# Altium integrated library Microchip PIC16 Part 1.IntLib: 1800 symbols (part 53 of 93)
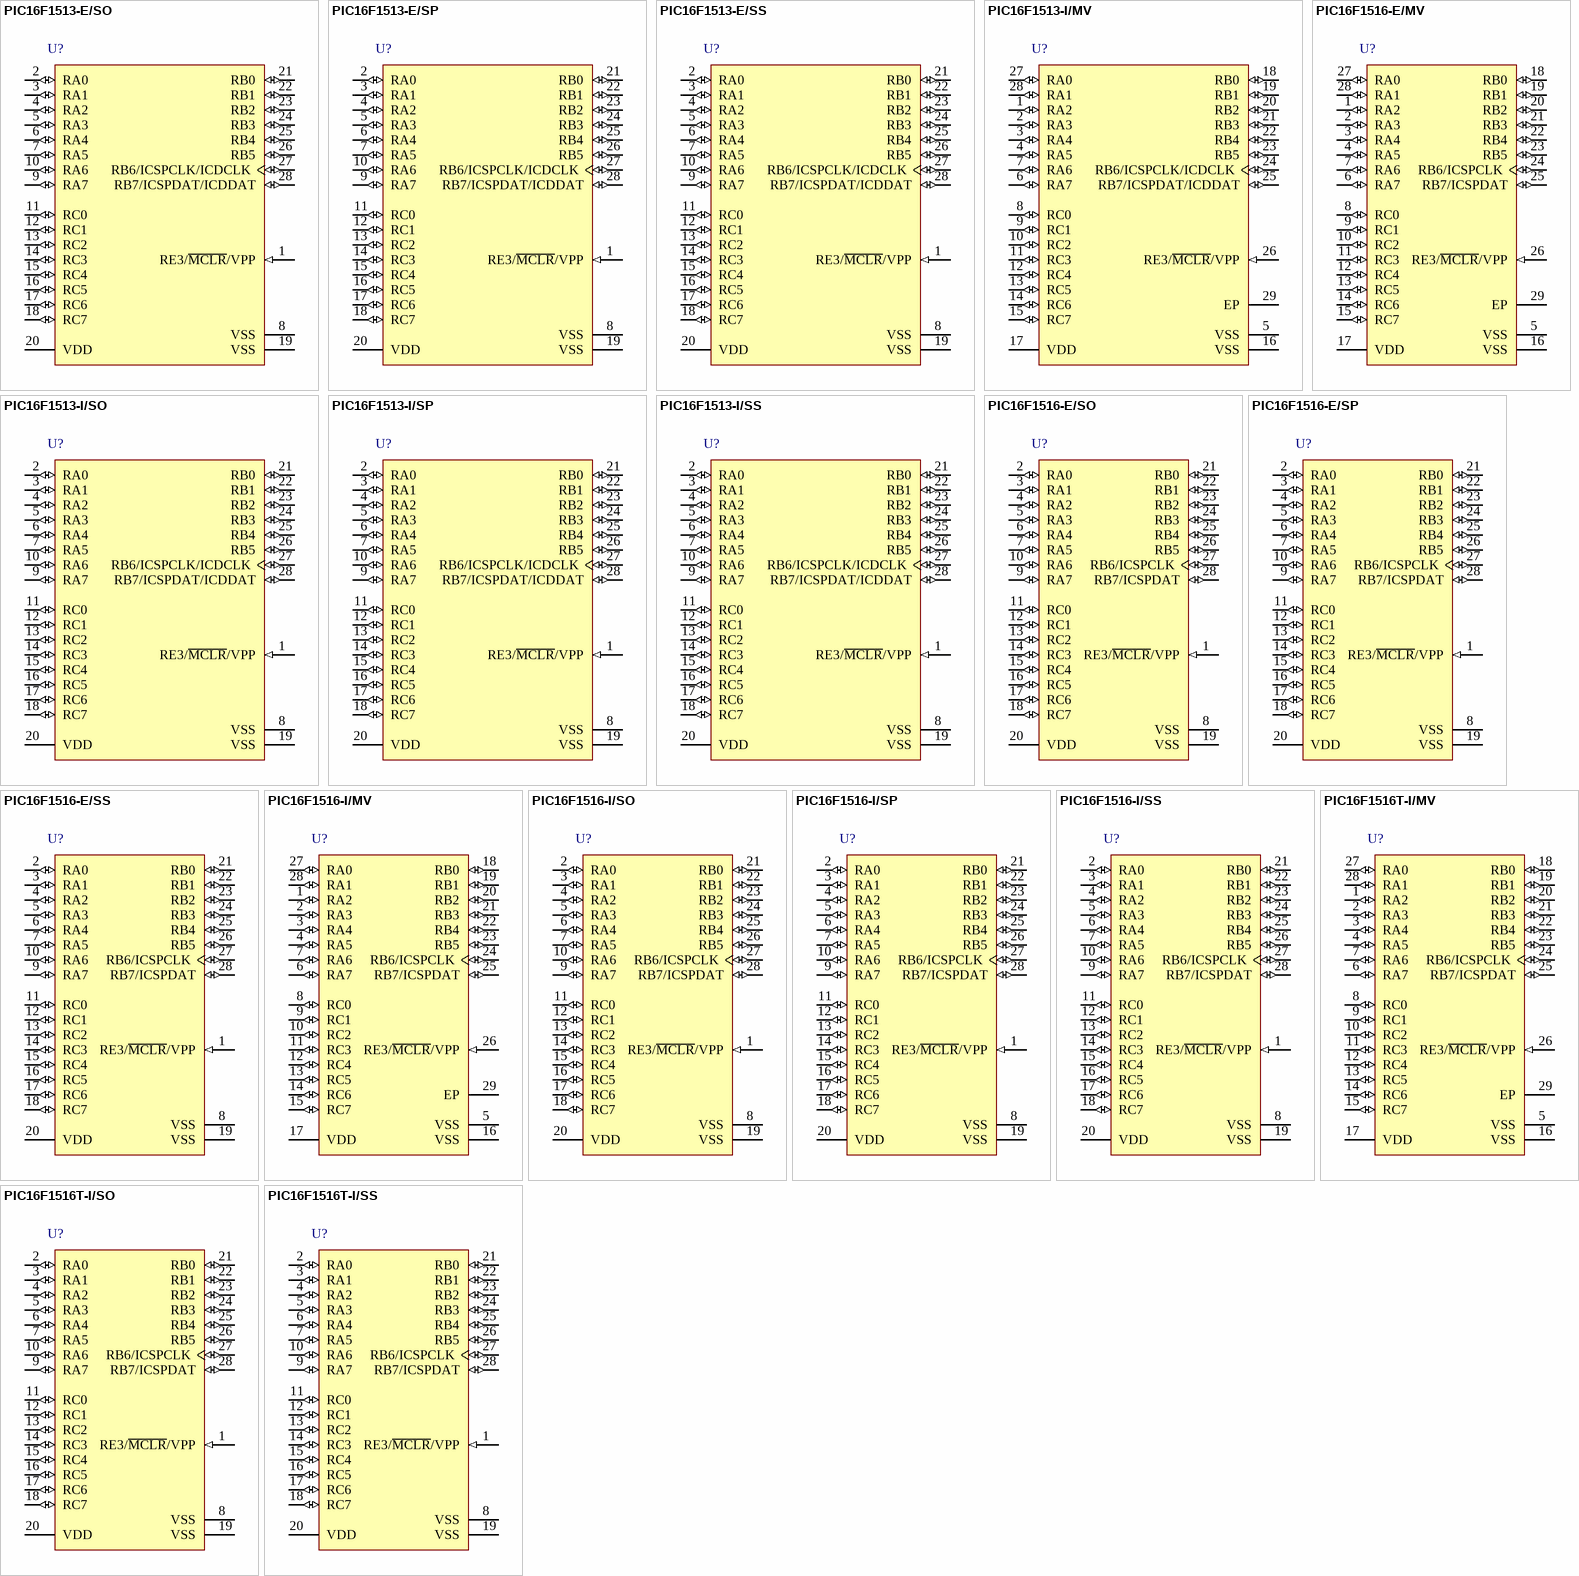
[diagram p151: symbols PIC16F1513-E/SO to PIC16F1516T-I/SS]

## PIC16F1516T-I/SS
designator U?
Flash Microcontroller with XLP Technology, 20 MHz, 24 I/O, -40 to 85 degC, 28-pin SSOP (SS28), Tape and Reel; Manufacturer: Microchip; PartNumber: PIC16F1516T-I/SS; # of A/D Channels: 17; Digital Communication: 1 -A/E/USART, 1 -MSSP(SPI/I2C); I/O Pins: 24; Internal Oscillator: 16 MHz, 31 kHz; Max. CPU Speed MHz: 20; Operation Voltage Range: 2.3V - 5.5V; Packing: T/R; Program Memory KBytes: 14; Program Memory KWords: 8; RAM: 512; Timers: 2 - 8-bit, 1 - 16-bit; DatasheetVersion: Rev. C; PackageVersion: C04-073B, 12/2012; PackageReference: SSOP-SS28; PackageDescription: 28-Lead Plastic Shrink Small Outline, 10.2 x 5.3 mm Body, 0.65 mm Pitch; Supplier 1: Digi-Key; Supplier Part Number 1: PIC16F1516T-I/SS-ND; Supplier 2: Mouser; Supplier Part Number 2: 579-PIC16F1516T-I/SS; Memory Type: Flash; RoHS: TRUE; Mounting Technology: Surface Mount; ComponentLink1Description: Datasheet; ComponentLink1URL: http://ww1.microchip.com/downloads/en/DeviceDoc/41452C.pdf; ComponentLink2Description: Package Specification; ComponentLink2URL: http://www.microchip.com/stellent/groups/techpub_sg/documents/packagingspec/en012702.pdf; ComponentLink3Description: URL Link1; ComponentLink3URL: Product URL:http://www.microchip.com/datasheet/PIC16F1516
footprint MCHP-SSOP-SS28_N (SOP, 28-Leads, Body 10.2x5.3mm, Pitch 0.65mm, IPC Medium Density)
footprint MCHP-SSOP-SS28_L (SOP, 28-Leads, Body 10.2x5.3mm, Pitch 0.65mm, IPC High Density)
footprint MCHP-SSOP-SS28_M (SOP, 28-Leads, Body 10.2x5.3mm, Pitch 0.65mm, IPC Low Density)
pins: 1 RE3/~{MCLR}/VPP (in), 2 RA0 (io), 3 RA1 (io), 4 RA2 (io), 5 RA3 (io), 6 RA4 (io), 7 RA5 (io), 8 VSS (power) "Ground reference.", 9 RA7 (io), 10 RA6 (io), 11 RC0 (io), 12 RC1 (io), 13 RC2 (io), 14 RC3 (io), 15 RC4 (io), 16 RC5 (io), 17 RC6 (io), 18 RC7 (io), 19 VSS (power) "Ground reference.", 20 VDD (power) "Positive supply.", 21 RB0 (io), 22 RB1 (io), 23 RB2 (io), 24 RB3 (io), 25 RB4 (io), 26 RB5 (io), 27 RB6/ICSPCLK (io), 28 RB7/ICSPDAT (io)

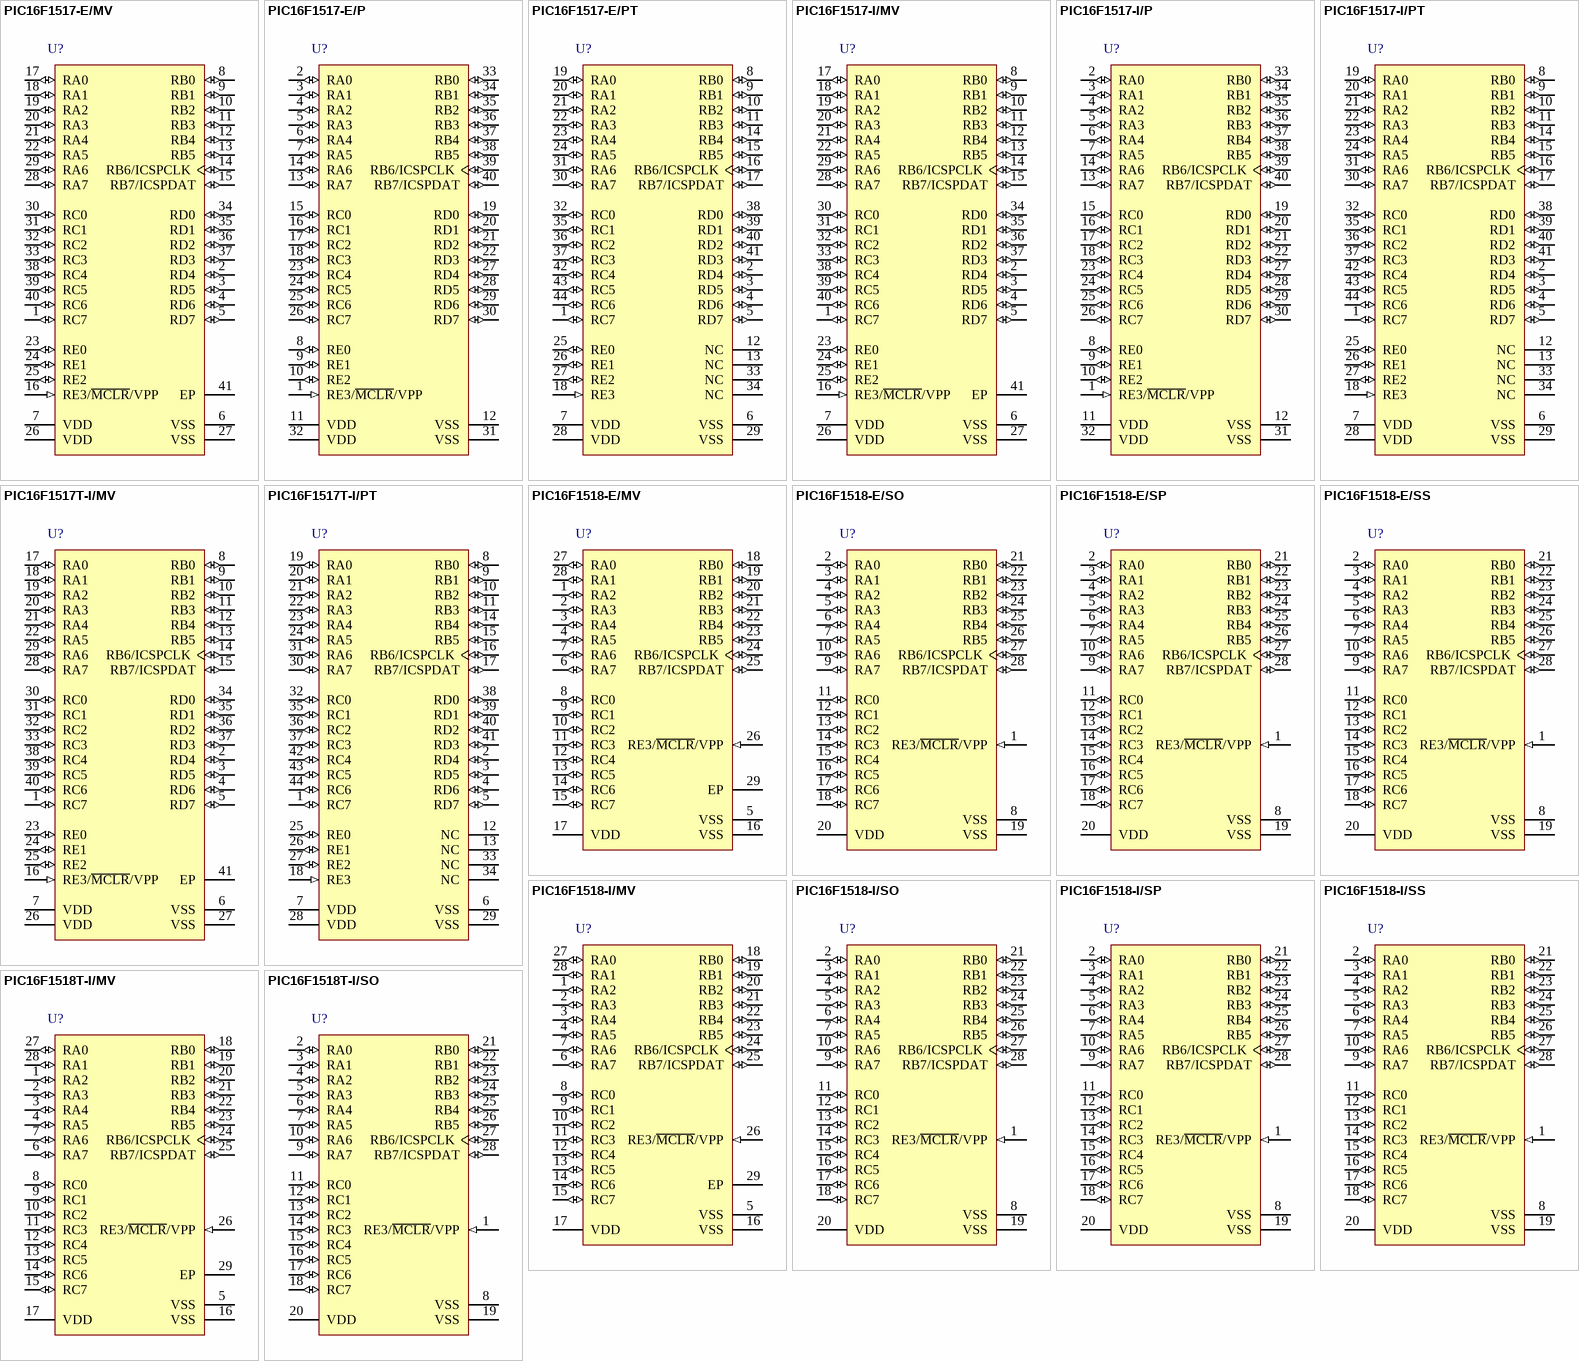
[diagram p52: symbols PIC16F1517-E/MV to PIC16F1518T-I/SO]

## PIC16F1517-E/MV
designator U?
Flash Microcontroller with XLP Technology, 20 MHz, 35 I/O, -40 to 125 degC, 40-pin UQFN (MV40), Tube; Manufacturer: Microchip; PartNumber: PIC16F1517-E/MV; # of A/D Channels: 28; Digital Communication: 1 -A/E/USART, 1 -MSSP(SPI/I2C); I/O Pins: 35; Internal Oscillator: 16 MHz, 31 kHz; Max. CPU Speed MHz: 20; Operation Voltage Range: 2.3V - 5.5V; Program Memory KBytes: 14; Program Memory KWords: 8; RAM: 512; Timers: 2 - 8-bit, 1 - 16-bit; DatasheetVersion: Rev. C; PackageVersion: C04-156A, 04/2013; PackageReference: UQFN-MV40; PackageDescription: 40-Lead Plastic Ultra Thin Quad Flat, No Lead Package, Body 5 x 5 mm, Pitch 0.4 mm; Supplier 1: Digi-Key; Supplier Part Number 1: PIC16F1517-E/MV-ND; Supplier 2: Newark; Supplier Part Number 2: 91R2995; Supplier 3: Mouser; Supplier Part Number 3: 579-PIC16F1517-E/MV; Memory Type: Flash; Packing: TUBE; RoHS: TRUE; Mounting Technology: Surface Mount; ComponentLink1Description: Datasheet; ComponentLink1URL: http://ww1.microchip.com/downloads/en/DeviceDoc/41452C.pdf; ComponentLink2Description: Package Specification; ComponentLink2URL: http://www.microchip.com/stellent/groups/techpub_sg/documents/packagingspec/en012702.pdf; ComponentLink3Description: URL Link1; ComponentLink3URL: Product URL:http://www.microchip.com/datasheet/PIC16F1517
footprint MCHP-UQFN-MV40_N (QFN, 40-Leads, Body 5x5mm, Pitch 0.4mm, Thermal Pad 3.7x3.7mm, IPC Medium Density)
footprint MCHP-UQFN-MV40_L (QFN, 40-Leads, Body 5x5mm, Pitch 0.4mm, Thermal Pad 3.7x3.7mm, IPC High Density)
footprint MCHP-UQFN-MV40_M (QFN, 40-Leads, Body 5x5mm, Pitch 0.4mm, Thermal Pad 3.7x3.7mm, IPC Low Density)
pins: 1 RC7 (io), 2 RD4 (io), 3 RD5 (io), 4 RD6 (io), 5 RD7 (io), 6 VSS (power) "Ground reference.", 7 VDD (power) "Positive supply.", 8 RB0 (io), 9 RB1 (io), 10 RB2 (io), 11 RB3 (io), 12 RB4 (io), 13 RB5 (io), 14 RB6/ICSPCLK (io), 15 RB7/ICSPDAT (io), 16 RE3/~{MCLR}/VPP (in), 17 RA0 (io), 18 RA1 (io), 19 RA2 (io), 20 RA3 (io), 21 RA4 (io), 22 RA5 (io), 23 RE0 (io), 24 RE1 (io), 25 RE2 (io), 26 VDD (power) "Positive supply.", 27 VSS (power) "Ground reference.", 28 RA7 (io), 29 RA6 (io), 30 RC0 (io), 31 RC1 (io), 32 RC2 (io), 33 RC3 (io), 34 RD0 (io), 35 RD1 (io), 36 RD2 (io), 37 RD3 (io), 38 RC4 (io), 39 RC5 (io), 40 RC6 (io), 41 EP

## PIC16F1517-E/P
designator U?
Flash Microcontroller with XLP Technology, 20 MHz, 35 I/O, -40 to 125 degC, 40-pin PDIP (P40), Tube; Manufacturer: Microchip; PartNumber: PIC16F1517-E/P; # of A/D Channels: 28; Digital Communication: 1 -A/E/USART, 1 -MSSP(SPI/I2C); I/O Pins: 35; Internal Oscillator: 16 MHz, 31 kHz; Max. CPU Speed MHz: 20; Operation Voltage Range: 2.3V - 5.5V; Program Memory KBytes: 14; Program Memory KWords: 8; RAM: 512; Timers: 2 - 8-bit, 1 - 16-bit; DatasheetVersion: Rev. C; PackageVersion: C04-016B, 04/2013; PackageReference: PDIP-P40; PackageDescription: 40-Lead Plastic Dual In-Line Package, Body 51.75 x 13.53 mm, Pitch 2.54 mm; Supplier 1: Digi-Key; Supplier Part Number 1: PIC16F1517-E/P-ND; Supplier 2: Newark; Supplier Part Number 2: 91R2996; Supplier 3: Mouser; Supplier Part Number 3: 579-PIC16F1517-E/P; Memory Type: Flash; Packing: TUBE; RoHS: TRUE; Mounting Technology: Through Hole; ComponentLink1Description: Datasheet; ComponentLink1URL: http://ww1.microchip.com/downloads/en/DeviceDoc/41452C.pdf; ComponentLink2Description: Package Specification; ComponentLink2URL: http://www.microchip.com/stellent/groups/techpub_sg/documents/packagingspec/en012702.pdf; ComponentLink3Description: URL Link1; ComponentLink3URL: Product URL:http://www.microchip.com/datasheet/PIC16F1517
footprint MCHP-PDIP-P40 (PDIP, 40-Leads, Body 51.75x13.53mm, Pitch 2.54mm)
pins: 1 RE3/~{MCLR}/VPP (in), 2 RA0 (io), 3 RA1 (io), 4 RA2 (io), 5 RA3 (io), 6 RA4 (io), 7 RA5 (io), 8 RE0 (io), 9 RE1 (io), 10 RE2 (io), 11 VDD (power) "Positive supply.", 12 VSS (power) "Ground reference.", 13 RA7 (io), 14 RA6 (io), 15 RC0 (io), 16 RC1 (io), 17 RC2 (io), 18 RC3 (io), 19 RD0 (io), 20 RD1 (io), 21 RD2 (io), 22 RD3 (io), 23 RC4 (io), 24 RC5 (io), 25 RC6 (io), 26 RC7 (io), 27 RD4 (io), 28 RD5 (io), 29 RD6 (io), 30 RD7 (io), 31 VSS (power) "Ground reference.", 32 VDD (power) "Positive supply.", 33 RB0 (io), 34 RB1 (io), 35 RB2 (io), 36 RB3 (io), 37 RB4 (io), 38 RB5 (io), 39 RB6/ICSPCLK (io), 40 RB7/ICSPDAT (io)

## PIC16F1517-E/PT
designator U?
Flash Microcontroller with XLP Technology, 20 MHz, 35 I/O, -40 to 125 degC, 44-pin TQFP (PT44), Tray; Manufacturer: Microchip; PartNumber: PIC16F1517-E/PT; # of A/D Channels: 28; Digital Communication: 1 -A/E/USART, 1 -MSSP(SPI/I2C); I/O Pins: 35; Internal Oscillator: 16 MHz, 31 kHz; Max. CPU Speed MHz: 20; Operation Voltage Range: 2.3V - 5.5V; Program Memory KBytes: 14; Program Memory KWords: 8; RAM: 512; Timers: 2 - 8-bit, 1 - 16-bit; DatasheetVersion: Rev. C; PackageVersion: C04-076B, 12/2012; PackageReference: TQFP-PT44; PackageDescription: 44-Lead Plastic Thin Quad Flatpack, 10 x 10 mm Body, 0.8 mm Pitch; Supplier 1: Digi-Key; Supplier Part Number 1: PIC16F1517-E/PT-ND; Supplier 2: Newark; Supplier Part Number 2: 91R2997; Supplier 3: Mouser; Supplier Part Number 3: 579-PIC16F1517-E/PT; Memory Type: Flash; Packing: TRAY; RoHS: TRUE; Mounting Technology: Surface Mount; ComponentLink1Description: Datasheet; ComponentLink1URL: http://ww1.microchip.com/downloads/en/DeviceDoc/41452C.pdf; ComponentLink2Description: Package Specification; ComponentLink2URL: http://www.microchip.com/stellent/groups/techpub_sg/documents/packagingspec/en012702.pdf; ComponentLink3Description: URL Link1; ComponentLink3URL: Product URL:http://www.microchip.com/datasheet/PIC16F1517
footprint MCHP-TQFP-PT44_N (QFN, 44-Leads, Body 10x10mm, Pitch 0.8mm, IPC Medium Density)
footprint MCHP-TQFP-PT44_L (QFN, 44-Leads, Body 10x10mm, Pitch 0.8mm, IPC High Density)
footprint MCHP-TQFP-PT44_M (QFN, 44-Leads, Body 10x10mm, Pitch 0.8mm, IPC Low Density)
pins: 1 RC7 (io), 2 RD4 (io), 3 RD5 (io), 4 RD6 (io), 5 RD7 (io), 6 VSS (power) "Ground reference.", 7 VDD (power) "Positive supply.", 8 RB0 (io), 9 RB1 (io), 10 RB2 (io), 11 RB3 (io), 12 NC, 13 NC, 14 RB4 (io), 15 RB5 (io), 16 RB6/ICSPCLK (io), 17 RB7/ICSPDAT (io), 18 RE3 (in), 19 RA0 (io), 20 RA1 (io), 21 RA2 (io), 22 RA3 (io), 23 RA4 (io), 24 RA5 (io), 25 RE0 (io), 26 RE1 (io), 27 RE2 (io), 28 VDD (power) "Positive supply.", 29 VSS (power) "Ground reference.", 30 RA7 (io), 31 RA6 (io), 32 RC0 (io), 33 NC, 34 NC, 35 RC1 (io), 36 RC2 (io), 37 RC3 (io), 38 RD0 (io), 39 RD1 (io), 40 RD2 (io), 41 RD3 (io), 42 RC4 (io), 43 RC5 (io), 44 RC6 (io)

## PIC16F1517-I/MV
designator U?
Flash Microcontroller with XLP Technology, 20 MHz, 35 I/O, -40 to 85 degC, 40-pin UQFN (MV40), Tube; Manufacturer: Microchip; PartNumber: PIC16F1517-I/MV; # of A/D Channels: 28; Digital Communication: 1 -A/E/USART, 1 -MSSP(SPI/I2C); I/O Pins: 35; Internal Oscillator: 16 MHz, 31 kHz; Max. CPU Speed MHz: 20; Operation Voltage Range: 2.3V - 5.5V; Program Memory KBytes: 14; Program Memory KWords: 8; RAM: 512; Timers: 2 - 8-bit, 1 - 16-bit; DatasheetVersion: Rev. C; PackageVersion: C04-156A, 04/2013; PackageReference: UQFN-MV40; PackageDescription: 40-Lead Plastic Ultra Thin Quad Flat, No Lead Package, Body 5 x 5 mm, Pitch 0.4 mm; Supplier 1: Digi-Key; Supplier Part Number 1: PIC16F1517-I/MV-ND; Supplier 2: Farnell; Supplier Part Number 2: 1909421; Supplier 3: Mouser; Supplier Part Number 3: 579-PIC16F1517-I/MV; Memory Type: Flash; Packing: TUBE; RoHS: TRUE; Mounting Technology: Surface Mount; ComponentLink1Description: Datasheet; ComponentLink1URL: http://ww1.microchip.com/downloads/en/DeviceDoc/41452C.pdf; ComponentLink2Description: Package Specification; ComponentLink2URL: http://www.microchip.com/stellent/groups/techpub_sg/documents/packagingspec/en012702.pdf; ComponentLink3Description: URL Link1; ComponentLink3URL: Product URL:http://www.microchip.com/datasheet/PIC16F1517
footprint MCHP-UQFN-MV40_N (QFN, 40-Leads, Body 5x5mm, Pitch 0.4mm, Thermal Pad 3.7x3.7mm, IPC Medium Density)
footprint MCHP-UQFN-MV40_L (QFN, 40-Leads, Body 5x5mm, Pitch 0.4mm, Thermal Pad 3.7x3.7mm, IPC High Density)
footprint MCHP-UQFN-MV40_M (QFN, 40-Leads, Body 5x5mm, Pitch 0.4mm, Thermal Pad 3.7x3.7mm, IPC Low Density)
pins: 1 RC7 (io), 2 RD4 (io), 3 RD5 (io), 4 RD6 (io), 5 RD7 (io), 6 VSS (power) "Ground reference.", 7 VDD (power) "Positive supply.", 8 RB0 (io), 9 RB1 (io), 10 RB2 (io), 11 RB3 (io), 12 RB4 (io), 13 RB5 (io), 14 RB6/ICSPCLK (io), 15 RB7/ICSPDAT (io), 16 RE3/~{MCLR}/VPP (in), 17 RA0 (io), 18 RA1 (io), 19 RA2 (io), 20 RA3 (io), 21 RA4 (io), 22 RA5 (io), 23 RE0 (io), 24 RE1 (io), 25 RE2 (io), 26 VDD (power) "Positive supply.", 27 VSS (power) "Ground reference.", 28 RA7 (io), 29 RA6 (io), 30 RC0 (io), 31 RC1 (io), 32 RC2 (io), 33 RC3 (io), 34 RD0 (io), 35 RD1 (io), 36 RD2 (io), 37 RD3 (io), 38 RC4 (io), 39 RC5 (io), 40 RC6 (io), 41 EP

## PIC16F1517-I/P
designator U?
Flash Microcontroller with XLP Technology, 20 MHz, 35 I/O, -40 to 85 degC, 40-pin PDIP (P40), Tube; Manufacturer: Microchip; PartNumber: PIC16F1517-I/P; # of A/D Channels: 28; Digital Communication: 1 -A/E/USART, 1 -MSSP(SPI/I2C); I/O Pins: 35; Internal Oscillator: 16 MHz, 31 kHz; Max. CPU Speed MHz: 20; Operation Voltage Range: 2.3V - 5.5V; Program Memory KBytes: 14; Program Memory KWords: 8; RAM: 512; Timers: 2 - 8-bit, 1 - 16-bit; DatasheetVersion: Rev. C; PackageVersion: C04-016B, 04/2013; PackageReference: PDIP-P40; PackageDescription: 40-Lead Plastic Dual In-Line Package, Body 51.75 x 13.53 mm, Pitch 2.54 mm; Supplier 1: Digi-Key; Supplier Part Number 1: PIC16F1517-I/P-ND; Supplier 2: Farnell; Supplier Part Number 2: 1909422; Supplier 3: Newark; Supplier Part Number 3: 91R2999; Supplier 4: Mouser; Supplier Part Number 4: 579-PIC16F1517-I/P; Memory Type: Flash; Packing: TUBE; RoHS: TRUE; Mounting Technology: Through Hole; ComponentLink1Description: Datasheet; ComponentLink1URL: http://ww1.microchip.com/downloads/en/DeviceDoc/41452C.pdf; ComponentLink2Description: Package Specification; ComponentLink2URL: http://www.microchip.com/stellent/groups/techpub_sg/documents/packagingspec/en012702.pdf; ComponentLink3Description: URL Link1; ComponentLink3URL: Product URL:http://www.microchip.com/datasheet/PIC16F1517
footprint MCHP-PDIP-P40 (PDIP, 40-Leads, Body 51.75x13.53mm, Pitch 2.54mm)
pins: 1 RE3/~{MCLR}/VPP (in), 2 RA0 (io), 3 RA1 (io), 4 RA2 (io), 5 RA3 (io), 6 RA4 (io), 7 RA5 (io), 8 RE0 (io), 9 RE1 (io), 10 RE2 (io), 11 VDD (power) "Positive supply.", 12 VSS (power) "Ground reference.", 13 RA7 (io), 14 RA6 (io), 15 RC0 (io), 16 RC1 (io), 17 RC2 (io), 18 RC3 (io), 19 RD0 (io), 20 RD1 (io), 21 RD2 (io), 22 RD3 (io), 23 RC4 (io), 24 RC5 (io), 25 RC6 (io), 26 RC7 (io), 27 RD4 (io), 28 RD5 (io), 29 RD6 (io), 30 RD7 (io), 31 VSS (power) "Ground reference.", 32 VDD (power) "Positive supply.", 33 RB0 (io), 34 RB1 (io), 35 RB2 (io), 36 RB3 (io), 37 RB4 (io), 38 RB5 (io), 39 RB6/ICSPCLK (io), 40 RB7/ICSPDAT (io)

## PIC16F1517-I/PT
designator U?
Flash Microcontroller with XLP Technology, 20 MHz, 35 I/O, -40 to 85 degC, 44-pin TQFP (PT44), Tray; Manufacturer: Microchip; PartNumber: PIC16F1517-I/PT; # of A/D Channels: 28; Digital Communication: 1 -A/E/USART, 1 -MSSP(SPI/I2C); I/O Pins: 35; Internal Oscillator: 16 MHz, 31 kHz; Max. CPU Speed MHz: 20; Operation Voltage Range: 2.3V - 5.5V; Program Memory KBytes: 14; Program Memory KWords: 8; RAM: 512; Timers: 2 - 8-bit, 1 - 16-bit; DatasheetVersion: Rev. C; PackageVersion: C04-076B, 12/2012; PackageReference: TQFP-PT44; PackageDescription: 44-Lead Plastic Thin Quad Flatpack, 10 x 10 mm Body, 0.8 mm Pitch; Supplier 1: Digi-Key; Supplier Part Number 1: PIC16F1517-I/PT-ND; Supplier 2: Farnell; Supplier Part Number 2: 1898770; Supplier 3: Farnell; Supplier Part Number 3: 1898770MPKG; Supplier 4: Newark; Supplier Part Number 4: 91R3000; Supplier 5: Mouser; Supplier Part Number 5: 579-PIC16F1517-I/PT; Memory Type: Flash; Packing: TRAY; RoHS: TRUE; Mounting Technology: Surface Mount; ComponentLink1Description: Datasheet; ComponentLink1URL: http://ww1.microchip.com/downloads/en/DeviceDoc/41452C.pdf; ComponentLink2Description: Package Specification; ComponentLink2URL: http://www.microchip.com/stellent/groups/techpub_sg/documents/packagingspec/en012702.pdf; ComponentLink3Description: URL Link1; ComponentLink3URL: Product URL:http://www.microchip.com/datasheet/PIC16F1517
footprint MCHP-TQFP-PT44_N (QFN, 44-Leads, Body 10x10mm, Pitch 0.8mm, IPC Medium Density)
footprint MCHP-TQFP-PT44_L (QFN, 44-Leads, Body 10x10mm, Pitch 0.8mm, IPC High Density)
footprint MCHP-TQFP-PT44_M (QFN, 44-Leads, Body 10x10mm, Pitch 0.8mm, IPC Low Density)
pins: 1 RC7 (io), 2 RD4 (io), 3 RD5 (io), 4 RD6 (io), 5 RD7 (io), 6 VSS (power) "Ground reference.", 7 VDD (power) "Positive supply.", 8 RB0 (io), 9 RB1 (io), 10 RB2 (io), 11 RB3 (io), 12 NC, 13 NC, 14 RB4 (io), 15 RB5 (io), 16 RB6/ICSPCLK (io), 17 RB7/ICSPDAT (io), 18 RE3 (in), 19 RA0 (io), 20 RA1 (io), 21 RA2 (io), 22 RA3 (io), 23 RA4 (io), 24 RA5 (io), 25 RE0 (io), 26 RE1 (io), 27 RE2 (io), 28 VDD (power) "Positive supply.", 29 VSS (power) "Ground reference.", 30 RA7 (io), 31 RA6 (io), 32 RC0 (io), 33 NC, 34 NC, 35 RC1 (io), 36 RC2 (io), 37 RC3 (io), 38 RD0 (io), 39 RD1 (io), 40 RD2 (io), 41 RD3 (io), 42 RC4 (io), 43 RC5 (io), 44 RC6 (io)

## PIC16F1517T-I/MV
designator U?
Flash Microcontroller with XLP Technology, 20 MHz, 35 I/O, -40 to 85 degC, 40-pin UQFN (MV40), Tape and Reel; Manufacturer: Microchip; PartNumber: PIC16F1517T-I/MV; # of A/D Channels: 28; Digital Communication: 1 -A/E/USART, 1 -MSSP(SPI/I2C); I/O Pins: 35; Internal Oscillator: 16 MHz, 31 kHz; Max. CPU Speed MHz: 20; Operation Voltage Range: 2.3V - 5.5V; Packing: T/R; Program Memory KBytes: 14; Program Memory KWords: 8; RAM: 512; Timers: 2 - 8-bit, 1 - 16-bit; DatasheetVersion: Rev. C; PackageVersion: C04-156A, 04/2013; PackageReference: UQFN-MV40; PackageDescription: 40-Lead Plastic Ultra Thin Quad Flat, No Lead Package, Body 5 x 5 mm, Pitch 0.4 mm; Supplier 1: Digi-Key; Supplier Part Number 1: PIC16F1517T-I/MV-ND; Supplier 2: Mouser; Supplier Part Number 2: 579-PIC16F1517T-I/MV; Memory Type: Flash; RoHS: TRUE; Mounting Technology: Surface Mount; ComponentLink1Description: Datasheet; ComponentLink1URL: http://ww1.microchip.com/downloads/en/DeviceDoc/41452C.pdf; ComponentLink2Description: Package Specification; ComponentLink2URL: http://www.microchip.com/stellent/groups/techpub_sg/documents/packagingspec/en012702.pdf; ComponentLink3Description: URL Link1; ComponentLink3URL: Product URL:http://www.microchip.com/datasheet/PIC16F1517
footprint MCHP-UQFN-MV40_N (QFN, 40-Leads, Body 5x5mm, Pitch 0.4mm, Thermal Pad 3.7x3.7mm, IPC Medium Density)
footprint MCHP-UQFN-MV40_L (QFN, 40-Leads, Body 5x5mm, Pitch 0.4mm, Thermal Pad 3.7x3.7mm, IPC High Density)
footprint MCHP-UQFN-MV40_M (QFN, 40-Leads, Body 5x5mm, Pitch 0.4mm, Thermal Pad 3.7x3.7mm, IPC Low Density)
pins: 1 RC7 (io), 2 RD4 (io), 3 RD5 (io), 4 RD6 (io), 5 RD7 (io), 6 VSS (power) "Ground reference.", 7 VDD (power) "Positive supply.", 8 RB0 (io), 9 RB1 (io), 10 RB2 (io), 11 RB3 (io), 12 RB4 (io), 13 RB5 (io), 14 RB6/ICSPCLK (io), 15 RB7/ICSPDAT (io), 16 RE3/~{MCLR}/VPP (in), 17 RA0 (io), 18 RA1 (io), 19 RA2 (io), 20 RA3 (io), 21 RA4 (io), 22 RA5 (io), 23 RE0 (io), 24 RE1 (io), 25 RE2 (io), 26 VDD (power) "Positive supply.", 27 VSS (power) "Ground reference.", 28 RA7 (io), 29 RA6 (io), 30 RC0 (io), 31 RC1 (io), 32 RC2 (io), 33 RC3 (io), 34 RD0 (io), 35 RD1 (io), 36 RD2 (io), 37 RD3 (io), 38 RC4 (io), 39 RC5 (io), 40 RC6 (io), 41 EP

## PIC16F1517T-I/PT
designator U?
Flash Microcontroller with XLP Technology, 20 MHz, 35 I/O, -40 to 85 degC, 44-pin TQFP (PT44), Tape and Reel; Manufacturer: Microchip; PartNumber: PIC16F1517T-I/PT; # of A/D Channels: 28; Digital Communication: 1 -A/E/USART, 1 -MSSP(SPI/I2C); I/O Pins: 35; Internal Oscillator: 16 MHz, 31 kHz; Max. CPU Speed MHz: 20; Operation Voltage Range: 2.3V - 5.5V; Packing: T/R; Program Memory KBytes: 14; Program Memory KWords: 8; RAM: 512; Timers: 2 - 8-bit, 1 - 16-bit; DatasheetVersion: Rev. C; PackageVersion: C04-076B, 12/2012; PackageReference: TQFP-PT44; PackageDescription: 44-Lead Plastic Thin Quad Flatpack, 10 x 10 mm Body, 0.8 mm Pitch; Supplier 1: Digi-Key; Supplier Part Number 1: PIC16F1517T-I/PT-ND; Supplier 2: Newark; Supplier Part Number 2: 91R3002; Supplier 3: Mouser; Supplier Part Number 3: 579-PIC16F1517T-I/PT; Memory Type: Flash; RoHS: TRUE; Mounting Technology: Surface Mount; ComponentLink1Description: Datasheet; ComponentLink1URL: http://ww1.microchip.com/downloads/en/DeviceDoc/41452C.pdf; ComponentLink2Description: Package Specification; ComponentLink2URL: http://www.microchip.com/stellent/groups/techpub_sg/documents/packagingspec/en012702.pdf; ComponentLink3Description: URL Link1; ComponentLink3URL: Product URL:http://www.microchip.com/datasheet/PIC16F1517
footprint MCHP-TQFP-PT44_N (QFN, 44-Leads, Body 10x10mm, Pitch 0.8mm, IPC Medium Density)
footprint MCHP-TQFP-PT44_L (QFN, 44-Leads, Body 10x10mm, Pitch 0.8mm, IPC High Density)
footprint MCHP-TQFP-PT44_M (QFN, 44-Leads, Body 10x10mm, Pitch 0.8mm, IPC Low Density)
pins: 1 RC7 (io), 2 RD4 (io), 3 RD5 (io), 4 RD6 (io), 5 RD7 (io), 6 VSS (power) "Ground reference.", 7 VDD (power) "Positive supply.", 8 RB0 (io), 9 RB1 (io), 10 RB2 (io), 11 RB3 (io), 12 NC, 13 NC, 14 RB4 (io), 15 RB5 (io), 16 RB6/ICSPCLK (io), 17 RB7/ICSPDAT (io), 18 RE3 (in), 19 RA0 (io), 20 RA1 (io), 21 RA2 (io), 22 RA3 (io), 23 RA4 (io), 24 RA5 (io), 25 RE0 (io), 26 RE1 (io), 27 RE2 (io), 28 VDD (power) "Positive supply.", 29 VSS (power) "Ground reference.", 30 RA7 (io), 31 RA6 (io), 32 RC0 (io), 33 NC, 34 NC, 35 RC1 (io), 36 RC2 (io), 37 RC3 (io), 38 RD0 (io), 39 RD1 (io), 40 RD2 (io), 41 RD3 (io), 42 RC4 (io), 43 RC5 (io), 44 RC6 (io)

## PIC16F1518-E/MV
designator U?
Flash Microcontroller with XLP Technology, 20 MHz, 24 I/O, -40 to 125 degC, 28-pin UQFN (MV28), Tube; Manufacturer: Microchip; PartNumber: PIC16F1518-E/MV; # of A/D Channels: 17; Digital Communication: 1 -A/E/USART, 1 -MSSP(SPI/I2C); I/O Pins: 24; Internal Oscillator: 16 MHz, 31 kHz; Max. CPU Speed MHz: 20; Operation Voltage Range: 2.3V - 5.5V; Program Memory KBytes: 28; Program Memory KWords: 16; RAM: 1024; Timers: 2 - 8-bit, 1 - 16-bit; DatasheetVersion: Rev. C; PackageVersion: C04-152A, 04/2013; PackageReference: UQFN-MV28; PackageDescription: 28-Lead Plastic Ultra Thin Quad Flat, Body 4 x 4 mm, Pitch 0.4 mm; Supplier 1: Digi-Key; Supplier Part Number 1: PIC16F1518-E/MV-ND; Supplier 2: Mouser; Supplier Part Number 2: 579-PIC16F1518-E/MV; Memory Type: Flash; Packing: TUBE; RoHS: TRUE; Mounting Technology: Surface Mount; ComponentLink1Description: Datasheet; ComponentLink1URL: http://ww1.microchip.com/downloads/en/DeviceDoc/41452C.pdf; ComponentLink2Description: Package Specification; ComponentLink2URL: http://www.microchip.com/stellent/groups/techpub_sg/documents/packagingspec/en012702.pdf; ComponentLink3Description: URL Link1; ComponentLink3URL: Product URL:http://www.microchip.com/datasheet/PIC16F1518
footprint MCHP-UQFN-MV28_N (QFN, 28-Leads, Body 4x4mm, Pitch 0.4mm, Thermal Pad 2.65x2.65mm, IPC Medium Density)
footprint MCHP-UQFN-MV28_L (QFN, 28-Leads, Body 4x4mm, Pitch 0.4mm, Thermal Pad 2.65x2.65mm, IPC High Density)
footprint MCHP-UQFN-MV28_M (QFN, 28-Leads, Body 4x4mm, Pitch 0.4mm, Thermal Pad 2.65x2.65mm, IPC Low Density)
pins: 1 RA2 (io), 2 RA3 (io), 3 RA4 (io), 4 RA5 (io), 5 VSS (power) "Ground reference.", 6 RA7 (io), 7 RA6 (io), 8 RC0 (io), 9 RC1 (io), 10 RC2 (io), 11 RC3 (io), 12 RC4 (io), 13 RC5 (io), 14 RC6 (io), 15 RC7 (io), 16 VSS (power) "Ground reference.", 17 VDD (power) "Positive supply.", 18 RB0 (io), 19 RB1 (io), 20 RB2 (io), 21 RB3 (io), 22 RB4 (io), 23 RB5 (io), 24 RB6/ICSPCLK (io), 25 RB7/ICSPDAT (io), 26 RE3/~{MCLR}/VPP (in), 27 RA0 (io), 28 RA1 (io), 29 EP

## PIC16F1518-E/SO
designator U?
Flash Microcontroller with XLP Technology, 20 MHz, 24 I/O, -40 to 125 degC, 28-pin SOIC (SO28), Tube; Manufacturer: Microchip; PartNumber: PIC16F1518-E/SO; # of A/D Channels: 17; Digital Communication: 1 -A/E/USART, 1 -MSSP(SPI/I2C); I/O Pins: 24; Internal Oscillator: 16 MHz, 31 kHz; Max. CPU Speed MHz: 20; Operation Voltage Range: 2.3V - 5.5V; Program Memory KBytes: 28; Program Memory KWords: 16; RAM: 1024; Timers: 2 - 8-bit, 1 - 16-bit; DatasheetVersion: Rev. C; PackageVersion: C04-052C, 12/2012; PackageReference: SOIC-SO28; PackageDescription: 28-Lead Plastic Small Outline, 17.9 x 7.5 mm Body, 1.27 mm Pitch; Supplier 1: Digi-Key; Supplier Part Number 1: PIC16F1518-E/SO-ND; Supplier 2: Mouser; Supplier Part Number 2: 579-PIC16F1518-E/SO; Memory Type: Flash; Packing: TUBE; RoHS: TRUE; Mounting Technology: Surface Mount; ComponentLink1Description: Datasheet; ComponentLink1URL: http://ww1.microchip.com/downloads/en/DeviceDoc/41452C.pdf; ComponentLink2Description: Package Specification; ComponentLink2URL: http://www.microchip.com/stellent/groups/techpub_sg/documents/packagingspec/en012702.pdf; ComponentLink3Description: URL Link1; ComponentLink3URL: Product URL:http://www.microchip.com/datasheet/PIC16F1518
footprint MCHP-SOIC-SO28_N (SOIC, 28-Leads, Body 17.9x7.5mm, Pitch 1.27mm, IPC Medium Density)
footprint MCHP-SOIC-SO28_L (SOIC, 28-Leads, Body 17.9x7.5mm, Pitch 1.27mm, IPC High Density)
footprint MCHP-SOIC-SO28_M (SOIC, 28-Leads, Body 17.9x7.5mm, Pitch 1.27mm, IPC Low Density)
pins: 1 RE3/~{MCLR}/VPP (in), 2 RA0 (io), 3 RA1 (io), 4 RA2 (io), 5 RA3 (io), 6 RA4 (io), 7 RA5 (io), 8 VSS (power) "Ground reference.", 9 RA7 (io), 10 RA6 (io), 11 RC0 (io), 12 RC1 (io), 13 RC2 (io), 14 RC3 (io), 15 RC4 (io), 16 RC5 (io), 17 RC6 (io), 18 RC7 (io), 19 VSS (power) "Ground reference.", 20 VDD (power) "Positive supply.", 21 RB0 (io), 22 RB1 (io), 23 RB2 (io), 24 RB3 (io), 25 RB4 (io), 26 RB5 (io), 27 RB6/ICSPCLK (io), 28 RB7/ICSPDAT (io)

## PIC16F1518-E/SP
designator U?
Flash Microcontroller with XLP Technology, 20 MHz, 24 I/O, -40 to 125 degC, 28-pin SPDIP (SP28), Tube; Manufacturer: Microchip; PartNumber: PIC16F1518-E/SP; # of A/D Channels: 17; Digital Communication: 1 -A/E/USART, 1 -MSSP(SPI/I2C); I/O Pins: 24; Internal Oscillator: 16 MHz, 31 kHz; Max. CPU Speed MHz: 20; Operation Voltage Range: 2.3V - 5.5V; Program Memory KBytes: 28; Program Memory KWords: 16; RAM: 1024; Timers: 2 - 8-bit, 1 - 16-bit; DatasheetVersion: Rev. C; PackageVersion: C04-070B, 12/2012; PackageReference: SPDIP-SP28; PackageDescription: 28-Lead Plastic Dual In-Line, 34.86 x 6.79 mm Body, 2.54 mm Pitch; Supplier 1: Digi-Key; Supplier Part Number 1: PIC16F1518-E/SP-ND; Supplier 2: Mouser; Supplier Part Number 2: 579-PIC16F1518-E/SP; Memory Type: Flash; Packing: TUBE; RoHS: TRUE; Mounting Technology: Through Hole; ComponentLink1Description: Datasheet; ComponentLink1URL: http://ww1.microchip.com/downloads/en/DeviceDoc/41452C.pdf; ComponentLink2Description: Package Specification; ComponentLink2URL: http://www.microchip.com/stellent/groups/techpub_sg/documents/packagingspec/en012702.pdf; ComponentLink3Description: URL Link1; ComponentLink3URL: Product URL:http://www.microchip.com/datasheet/PIC16F1518
footprint MCHP-SPDIP-SP28 (DIP, 28-Leads, Body 34.86x6.79mm, Pitch 2.54mm)
pins: 1 RE3/~{MCLR}/VPP (in), 2 RA0 (io), 3 RA1 (io), 4 RA2 (io), 5 RA3 (io), 6 RA4 (io), 7 RA5 (io), 8 VSS (power) "Ground reference.", 9 RA7 (io), 10 RA6 (io), 11 RC0 (io), 12 RC1 (io), 13 RC2 (io), 14 RC3 (io), 15 RC4 (io), 16 RC5 (io), 17 RC6 (io), 18 RC7 (io), 19 VSS (power) "Ground reference.", 20 VDD (power) "Positive supply.", 21 RB0 (io), 22 RB1 (io), 23 RB2 (io), 24 RB3 (io), 25 RB4 (io), 26 RB5 (io), 27 RB6/ICSPCLK (io), 28 RB7/ICSPDAT (io)

## PIC16F1518-E/SS
designator U?
Flash Microcontroller with XLP Technology, 20 MHz, 24 I/O, -40 to 125 degC, 28-pin SSOP (SS28), Tube; Manufacturer: Microchip; PartNumber: PIC16F1518-E/SS; # of A/D Channels: 17; Digital Communication: 1 -A/E/USART, 1 -MSSP(SPI/I2C); I/O Pins: 24; Internal Oscillator: 16 MHz, 31 kHz; Max. CPU Speed MHz: 20; Operation Voltage Range: 2.3V - 5.5V; Program Memory KBytes: 28; Program Memory KWords: 16; RAM: 1024; Timers: 2 - 8-bit, 1 - 16-bit; DatasheetVersion: Rev. C; PackageVersion: C04-073B, 12/2012; PackageReference: SSOP-SS28; PackageDescription: 28-Lead Plastic Shrink Small Outline, 10.2 x 5.3 mm Body, 0.65 mm Pitch; Supplier 1: Digi-Key; Supplier Part Number 1: PIC16F1518-E/SS-ND; Supplier 2: Mouser; Supplier Part Number 2: 579-PIC16F1518-E/SS; Memory Type: Flash; Packing: TUBE; RoHS: TRUE; Mounting Technology: Surface Mount; ComponentLink1Description: Datasheet; ComponentLink1URL: http://ww1.microchip.com/downloads/en/DeviceDoc/41452C.pdf; ComponentLink2Description: Package Specification; ComponentLink2URL: http://www.microchip.com/stellent/groups/techpub_sg/documents/packagingspec/en012702.pdf; ComponentLink3Description: URL Link1; ComponentLink3URL: Product URL:http://www.microchip.com/datasheet/PIC16F1518
footprint MCHP-SSOP-SS28_N (SOP, 28-Leads, Body 10.2x5.3mm, Pitch 0.65mm, IPC Medium Density)
footprint MCHP-SSOP-SS28_L (SOP, 28-Leads, Body 10.2x5.3mm, Pitch 0.65mm, IPC High Density)
footprint MCHP-SSOP-SS28_M (SOP, 28-Leads, Body 10.2x5.3mm, Pitch 0.65mm, IPC Low Density)
pins: 1 RE3/~{MCLR}/VPP (in), 2 RA0 (io), 3 RA1 (io), 4 RA2 (io), 5 RA3 (io), 6 RA4 (io), 7 RA5 (io), 8 VSS (power) "Ground reference.", 9 RA7 (io), 10 RA6 (io), 11 RC0 (io), 12 RC1 (io), 13 RC2 (io), 14 RC3 (io), 15 RC4 (io), 16 RC5 (io), 17 RC6 (io), 18 RC7 (io), 19 VSS (power) "Ground reference.", 20 VDD (power) "Positive supply.", 21 RB0 (io), 22 RB1 (io), 23 RB2 (io), 24 RB3 (io), 25 RB4 (io), 26 RB5 (io), 27 RB6/ICSPCLK (io), 28 RB7/ICSPDAT (io)

## PIC16F1518-I/MV
designator U?
Flash Microcontroller with XLP Technology, 20 MHz, 24 I/O, -40 to 85 degC, 28-pin UQFN (MV28), Tube; Manufacturer: Microchip; PartNumber: PIC16F1518-I/MV; # of A/D Channels: 17; Digital Communication: 1 -A/E/USART, 1 -MSSP(SPI/I2C); I/O Pins: 24; Internal Oscillator: 16 MHz, 31 kHz; Max. CPU Speed MHz: 20; Operation Voltage Range: 2.3V - 5.5V; Program Memory KBytes: 28; Program Memory KWords: 16; RAM: 1024; Timers: 2 - 8-bit, 1 - 16-bit; DatasheetVersion: Rev. C; PackageVersion: C04-152A, 04/2013; PackageReference: UQFN-MV28; PackageDescription: 28-Lead Plastic Ultra Thin Quad Flat, Body 4 x 4 mm, Pitch 0.4 mm; Supplier 1: Digi-Key; Supplier Part Number 1: PIC16F1518-I/MV-ND; Supplier 2: Farnell; Supplier Part Number 2: 1898771; Supplier 3: Mouser; Supplier Part Number 3: 579-PIC16F1518-I/MV; Memory Type: Flash; Packing: TUBE; RoHS: TRUE; Mounting Technology: Surface Mount; ComponentLink1Description: Datasheet; ComponentLink1URL: http://ww1.microchip.com/downloads/en/DeviceDoc/41452C.pdf; ComponentLink2Description: Package Specification; ComponentLink2URL: http://www.microchip.com/stellent/groups/techpub_sg/documents/packagingspec/en012702.pdf; ComponentLink3Description: URL Link1; ComponentLink3URL: Product URL:http://www.microchip.com/datasheet/PIC16F1518
footprint MCHP-UQFN-MV28_N (QFN, 28-Leads, Body 4x4mm, Pitch 0.4mm, Thermal Pad 2.65x2.65mm, IPC Medium Density)
footprint MCHP-UQFN-MV28_L (QFN, 28-Leads, Body 4x4mm, Pitch 0.4mm, Thermal Pad 2.65x2.65mm, IPC High Density)
footprint MCHP-UQFN-MV28_M (QFN, 28-Leads, Body 4x4mm, Pitch 0.4mm, Thermal Pad 2.65x2.65mm, IPC Low Density)
pins: 1 RA2 (io), 2 RA3 (io), 3 RA4 (io), 4 RA5 (io), 5 VSS (power) "Ground reference.", 6 RA7 (io), 7 RA6 (io), 8 RC0 (io), 9 RC1 (io), 10 RC2 (io), 11 RC3 (io), 12 RC4 (io), 13 RC5 (io), 14 RC6 (io), 15 RC7 (io), 16 VSS (power) "Ground reference.", 17 VDD (power) "Positive supply.", 18 RB0 (io), 19 RB1 (io), 20 RB2 (io), 21 RB3 (io), 22 RB4 (io), 23 RB5 (io), 24 RB6/ICSPCLK (io), 25 RB7/ICSPDAT (io), 26 RE3/~{MCLR}/VPP (in), 27 RA0 (io), 28 RA1 (io), 29 EP

## PIC16F1518-I/SO
designator U?
Flash Microcontroller with XLP Technology, 20 MHz, 24 I/O, -40 to 85 degC, 28-pin SOIC (SO28), Tube; Manufacturer: Microchip; PartNumber: PIC16F1518-I/SO; # of A/D Channels: 17; Digital Communication: 1 -A/E/USART, 1 -MSSP(SPI/I2C); I/O Pins: 24; Internal Oscillator: 16 MHz, 31 kHz; Max. CPU Speed MHz: 20; Operation Voltage Range: 2.3V - 5.5V; Program Memory KBytes: 28; Program Memory KWords: 16; RAM: 1024; Timers: 2 - 8-bit, 1 - 16-bit; DatasheetVersion: Rev. C; PackageVersion: C04-052C, 12/2012; PackageReference: SOIC-SO28; PackageDescription: 28-Lead Plastic Small Outline, 17.9 x 7.5 mm Body, 1.27 mm Pitch; Supplier 1: Digi-Key; Supplier Part Number 1: PIC16F1518-I/SO-ND; Supplier 2: Farnell; Supplier Part Number 2: 1898773; Supplier 3: Newark; Supplier Part Number 3: 91R3008; Supplier 4: Mouser; Supplier Part Number 4: 579-PIC16F1518-I/SO; Memory Type: Flash; Packing: TUBE; RoHS: TRUE; Mounting Technology: Surface Mount; ComponentLink1Description: Datasheet; ComponentLink1URL: http://ww1.microchip.com/downloads/en/DeviceDoc/41452C.pdf; ComponentLink2Description: Package Specification; ComponentLink2URL: http://www.microchip.com/stellent/groups/techpub_sg/documents/packagingspec/en012702.pdf; ComponentLink3Description: URL Link1; ComponentLink3URL: Product URL:http://www.microchip.com/datasheet/PIC16F1518
footprint MCHP-SOIC-SO28_N (SOIC, 28-Leads, Body 17.9x7.5mm, Pitch 1.27mm, IPC Medium Density)
footprint MCHP-SOIC-SO28_L (SOIC, 28-Leads, Body 17.9x7.5mm, Pitch 1.27mm, IPC High Density)
footprint MCHP-SOIC-SO28_M (SOIC, 28-Leads, Body 17.9x7.5mm, Pitch 1.27mm, IPC Low Density)
pins: 1 RE3/~{MCLR}/VPP (in), 2 RA0 (io), 3 RA1 (io), 4 RA2 (io), 5 RA3 (io), 6 RA4 (io), 7 RA5 (io), 8 VSS (power) "Ground reference.", 9 RA7 (io), 10 RA6 (io), 11 RC0 (io), 12 RC1 (io), 13 RC2 (io), 14 RC3 (io), 15 RC4 (io), 16 RC5 (io), 17 RC6 (io), 18 RC7 (io), 19 VSS (power) "Ground reference.", 20 VDD (power) "Positive supply.", 21 RB0 (io), 22 RB1 (io), 23 RB2 (io), 24 RB3 (io), 25 RB4 (io), 26 RB5 (io), 27 RB6/ICSPCLK (io), 28 RB7/ICSPDAT (io)

## PIC16F1518-I/SP
designator U?
Flash Microcontroller with XLP Technology, 20 MHz, 24 I/O, -40 to 85 degC, 28-pin SPDIP (SP28), Tube; Manufacturer: Microchip; PartNumber: PIC16F1518-I/SP; # of A/D Channels: 17; Digital Communication: 1 -A/E/USART, 1 -MSSP(SPI/I2C); I/O Pins: 24; Internal Oscillator: 16 MHz, 31 kHz; Max. CPU Speed MHz: 20; Operation Voltage Range: 2.3V - 5.5V; Program Memory KBytes: 28; Program Memory KWords: 16; RAM: 1024; Timers: 2 - 8-bit, 1 - 16-bit; DatasheetVersion: Rev. C; PackageVersion: C04-070B, 12/2012; PackageReference: SPDIP-SP28; PackageDescription: 28-Lead Plastic Dual In-Line, 34.86 x 6.79 mm Body, 2.54 mm Pitch; Supplier 1: Digi-Key; Supplier Part Number 1: PIC16F1518-I/SP-ND; Supplier 2: Farnell; Supplier Part Number 2: 1909424; Supplier 3: Newark; Supplier Part Number 3: 91R3009; Supplier 4: Mouser; Supplier Part Number 4: 579-PIC16F1518-I/SP; Memory Type: Flash; Packing: TUBE; RoHS: TRUE; Mounting Technology: Through Hole; ComponentLink1Description: Datasheet; ComponentLink1URL: http://ww1.microchip.com/downloads/en/DeviceDoc/41452C.pdf; ComponentLink2Description: Package Specification; ComponentLink2URL: http://www.microchip.com/stellent/groups/techpub_sg/documents/packagingspec/en012702.pdf; ComponentLink3Description: URL Link1; ComponentLink3URL: Product URL:http://www.microchip.com/datasheet/PIC16F1518
footprint MCHP-SPDIP-SP28 (DIP, 28-Leads, Body 34.86x6.79mm, Pitch 2.54mm)
pins: 1 RE3/~{MCLR}/VPP (in), 2 RA0 (io), 3 RA1 (io), 4 RA2 (io), 5 RA3 (io), 6 RA4 (io), 7 RA5 (io), 8 VSS (power) "Ground reference.", 9 RA7 (io), 10 RA6 (io), 11 RC0 (io), 12 RC1 (io), 13 RC2 (io), 14 RC3 (io), 15 RC4 (io), 16 RC5 (io), 17 RC6 (io), 18 RC7 (io), 19 VSS (power) "Ground reference.", 20 VDD (power) "Positive supply.", 21 RB0 (io), 22 RB1 (io), 23 RB2 (io), 24 RB3 (io), 25 RB4 (io), 26 RB5 (io), 27 RB6/ICSPCLK (io), 28 RB7/ICSPDAT (io)

## PIC16F1518-I/SS
designator U?
Flash Microcontroller with XLP Technology, 20 MHz, 24 I/O, -40 to 85 degC, 28-pin SSOP (SS28), Tube; Manufacturer: Microchip; PartNumber: PIC16F1518-I/SS; # of A/D Channels: 17; Digital Communication: 1 -A/E/USART, 1 -MSSP(SPI/I2C); I/O Pins: 24; Internal Oscillator: 16 MHz, 31 kHz; Max. CPU Speed MHz: 20; Operation Voltage Range: 2.3V - 5.5V; Program Memory KBytes: 28; Program Memory KWords: 16; RAM: 1024; Timers: 2 - 8-bit, 1 - 16-bit; DatasheetVersion: Rev. C; PackageVersion: C04-073B, 12/2012; PackageReference: SSOP-SS28; PackageDescription: 28-Lead Plastic Shrink Small Outline, 10.2 x 5.3 mm Body, 0.65 mm Pitch; Supplier 1: Digi-Key; Supplier Part Number 1: PIC16F1518-I/SS-ND; Supplier 2: Farnell; Supplier Part Number 2: 1898774; Supplier 3: Newark; Supplier Part Number 3: 91R3010; Supplier 4: Newark; Supplier Part Number 4: 55T3644; Supplier 5: Mouser; Supplier Part Number 5: 579-PIC16F1518-I/SS; Memory Type: Flash; Packing: TUBE; RoHS: TRUE; Mounting Technology: Surface Mount; ComponentLink1Description: Datasheet; ComponentLink1URL: http://ww1.microchip.com/downloads/en/DeviceDoc/41452C.pdf; ComponentLink2Description: Package Specification; ComponentLink2URL: http://www.microchip.com/stellent/groups/techpub_sg/documents/packagingspec/en012702.pdf; ComponentLink3Description: URL Link1; ComponentLink3URL: Product URL:http://www.microchip.com/datasheet/PIC16F1518
footprint MCHP-SSOP-SS28_N (SOP, 28-Leads, Body 10.2x5.3mm, Pitch 0.65mm, IPC Medium Density)
footprint MCHP-SSOP-SS28_L (SOP, 28-Leads, Body 10.2x5.3mm, Pitch 0.65mm, IPC High Density)
footprint MCHP-SSOP-SS28_M (SOP, 28-Leads, Body 10.2x5.3mm, Pitch 0.65mm, IPC Low Density)
pins: 1 RE3/~{MCLR}/VPP (in), 2 RA0 (io), 3 RA1 (io), 4 RA2 (io), 5 RA3 (io), 6 RA4 (io), 7 RA5 (io), 8 VSS (power) "Ground reference.", 9 RA7 (io), 10 RA6 (io), 11 RC0 (io), 12 RC1 (io), 13 RC2 (io), 14 RC3 (io), 15 RC4 (io), 16 RC5 (io), 17 RC6 (io), 18 RC7 (io), 19 VSS (power) "Ground reference.", 20 VDD (power) "Positive supply.", 21 RB0 (io), 22 RB1 (io), 23 RB2 (io), 24 RB3 (io), 25 RB4 (io), 26 RB5 (io), 27 RB6/ICSPCLK (io), 28 RB7/ICSPDAT (io)

## PIC16F1518T-I/MV
designator U?
Flash Microcontroller with XLP Technology, 20 MHz, 24 I/O, -40 to 85 degC, 28-pin UQFN (MV28), Tape and Reel; Manufacturer: Microchip; PartNumber: PIC16F1518T-I/MV; # of A/D Channels: 17; Digital Communication: 1 -A/E/USART, 1 -MSSP(SPI/I2C); I/O Pins: 24; Internal Oscillator: 16 MHz, 31 kHz; Max. CPU Speed MHz: 20; Operation Voltage Range: 2.3V - 5.5V; Packing: T/R; Program Memory KBytes: 28; Program Memory KWords: 16; RAM: 1024; Timers: 2 - 8-bit, 1 - 16-bit; DatasheetVersion: Rev. C; PackageVersion: C04-152A, 04/2013; PackageReference: UQFN-MV28; PackageDescription: 28-Lead Plastic Ultra Thin Quad Flat, Body 4 x 4 mm, Pitch 0.4 mm; Supplier 1: Digi-Key; Supplier Part Number 1: PIC16F1518T-I/MV-ND; Supplier 2: Mouser; Supplier Part Number 2: 579-PIC16F1518T-I/MV; Memory Type: Flash; RoHS: TRUE; Mounting Technology: Surface Mount; ComponentLink1Description: Datasheet; ComponentLink1URL: http://ww1.microchip.com/downloads/en/DeviceDoc/41452C.pdf; ComponentLink2Description: Package Specification; ComponentLink2URL: http://www.microchip.com/stellent/groups/techpub_sg/documents/packagingspec/en012702.pdf; ComponentLink3Description: URL Link1; ComponentLink3URL: Product URL:http://www.microchip.com/datasheet/PIC16F1518
footprint MCHP-UQFN-MV28_N (QFN, 28-Leads, Body 4x4mm, Pitch 0.4mm, Thermal Pad 2.65x2.65mm, IPC Medium Density)
footprint MCHP-UQFN-MV28_L (QFN, 28-Leads, Body 4x4mm, Pitch 0.4mm, Thermal Pad 2.65x2.65mm, IPC High Density)
footprint MCHP-UQFN-MV28_M (QFN, 28-Leads, Body 4x4mm, Pitch 0.4mm, Thermal Pad 2.65x2.65mm, IPC Low Density)
pins: 1 RA2 (io), 2 RA3 (io), 3 RA4 (io), 4 RA5 (io), 5 VSS (power) "Ground reference.", 6 RA7 (io), 7 RA6 (io), 8 RC0 (io), 9 RC1 (io), 10 RC2 (io), 11 RC3 (io), 12 RC4 (io), 13 RC5 (io), 14 RC6 (io), 15 RC7 (io), 16 VSS (power) "Ground reference.", 17 VDD (power) "Positive supply.", 18 RB0 (io), 19 RB1 (io), 20 RB2 (io), 21 RB3 (io), 22 RB4 (io), 23 RB5 (io), 24 RB6/ICSPCLK (io), 25 RB7/ICSPDAT (io), 26 RE3/~{MCLR}/VPP (in), 27 RA0 (io), 28 RA1 (io), 29 EP

## PIC16F1518T-I/SO
designator U?
Flash Microcontroller with XLP Technology, 20 MHz, 24 I/O, -40 to 85 degC, 28-pin SOIC (SO28), Tape and Reel; Manufacturer: Microchip; PartNumber: PIC16F1518T-I/SO; # of A/D Channels: 17; Digital Communication: 1 -A/E/USART, 1 -MSSP(SPI/I2C); I/O Pins: 24; Internal Oscillator: 16 MHz, 31 kHz; Max. CPU Speed MHz: 20; Operation Voltage Range: 2.3V - 5.5V; Packing: T/R; Program Memory KBytes: 28; Program Memory KWords: 16; RAM: 1024; Timers: 2 - 8-bit, 1 - 16-bit; DatasheetVersion: Rev. C; PackageVersion: C04-052C, 12/2012; PackageReference: SOIC-SO28; PackageDescription: 28-Lead Plastic Small Outline, 17.9 x 7.5 mm Body, 1.27 mm Pitch; Supplier 1: Digi-Key; Supplier Part Number 1: PIC16F1518T-I/SO-ND; Supplier 2: Mouser; Supplier Part Number 2: 579-PIC16F1518T-I/SO; Memory Type: Flash; RoHS: TRUE; Mounting Technology: Surface Mount; ComponentLink1Description: Datasheet; ComponentLink1URL: http://ww1.microchip.com/downloads/en/DeviceDoc/41452C.pdf; ComponentLink2Description: Package Specification; ComponentLink2URL: http://www.microchip.com/stellent/groups/techpub_sg/documents/packagingspec/en012702.pdf; ComponentLink3Description: URL Link1; ComponentLink3URL: Product URL:http://www.microchip.com/datasheet/PIC16F1518
footprint MCHP-SOIC-SO28_N (SOIC, 28-Leads, Body 17.9x7.5mm, Pitch 1.27mm, IPC Medium Density)
footprint MCHP-SOIC-SO28_L (SOIC, 28-Leads, Body 17.9x7.5mm, Pitch 1.27mm, IPC High Density)
footprint MCHP-SOIC-SO28_M (SOIC, 28-Leads, Body 17.9x7.5mm, Pitch 1.27mm, IPC Low Density)
pins: 1 RE3/~{MCLR}/VPP (in), 2 RA0 (io), 3 RA1 (io), 4 RA2 (io), 5 RA3 (io), 6 RA4 (io), 7 RA5 (io), 8 VSS (power) "Ground reference.", 9 RA7 (io), 10 RA6 (io), 11 RC0 (io), 12 RC1 (io), 13 RC2 (io), 14 RC3 (io), 15 RC4 (io), 16 RC5 (io), 17 RC6 (io), 18 RC7 (io), 19 VSS (power) "Ground reference.", 20 VDD (power) "Positive supply.", 21 RB0 (io), 22 RB1 (io), 23 RB2 (io), 24 RB3 (io), 25 RB4 (io), 26 RB5 (io), 27 RB6/ICSPCLK (io), 28 RB7/ICSPDAT (io)

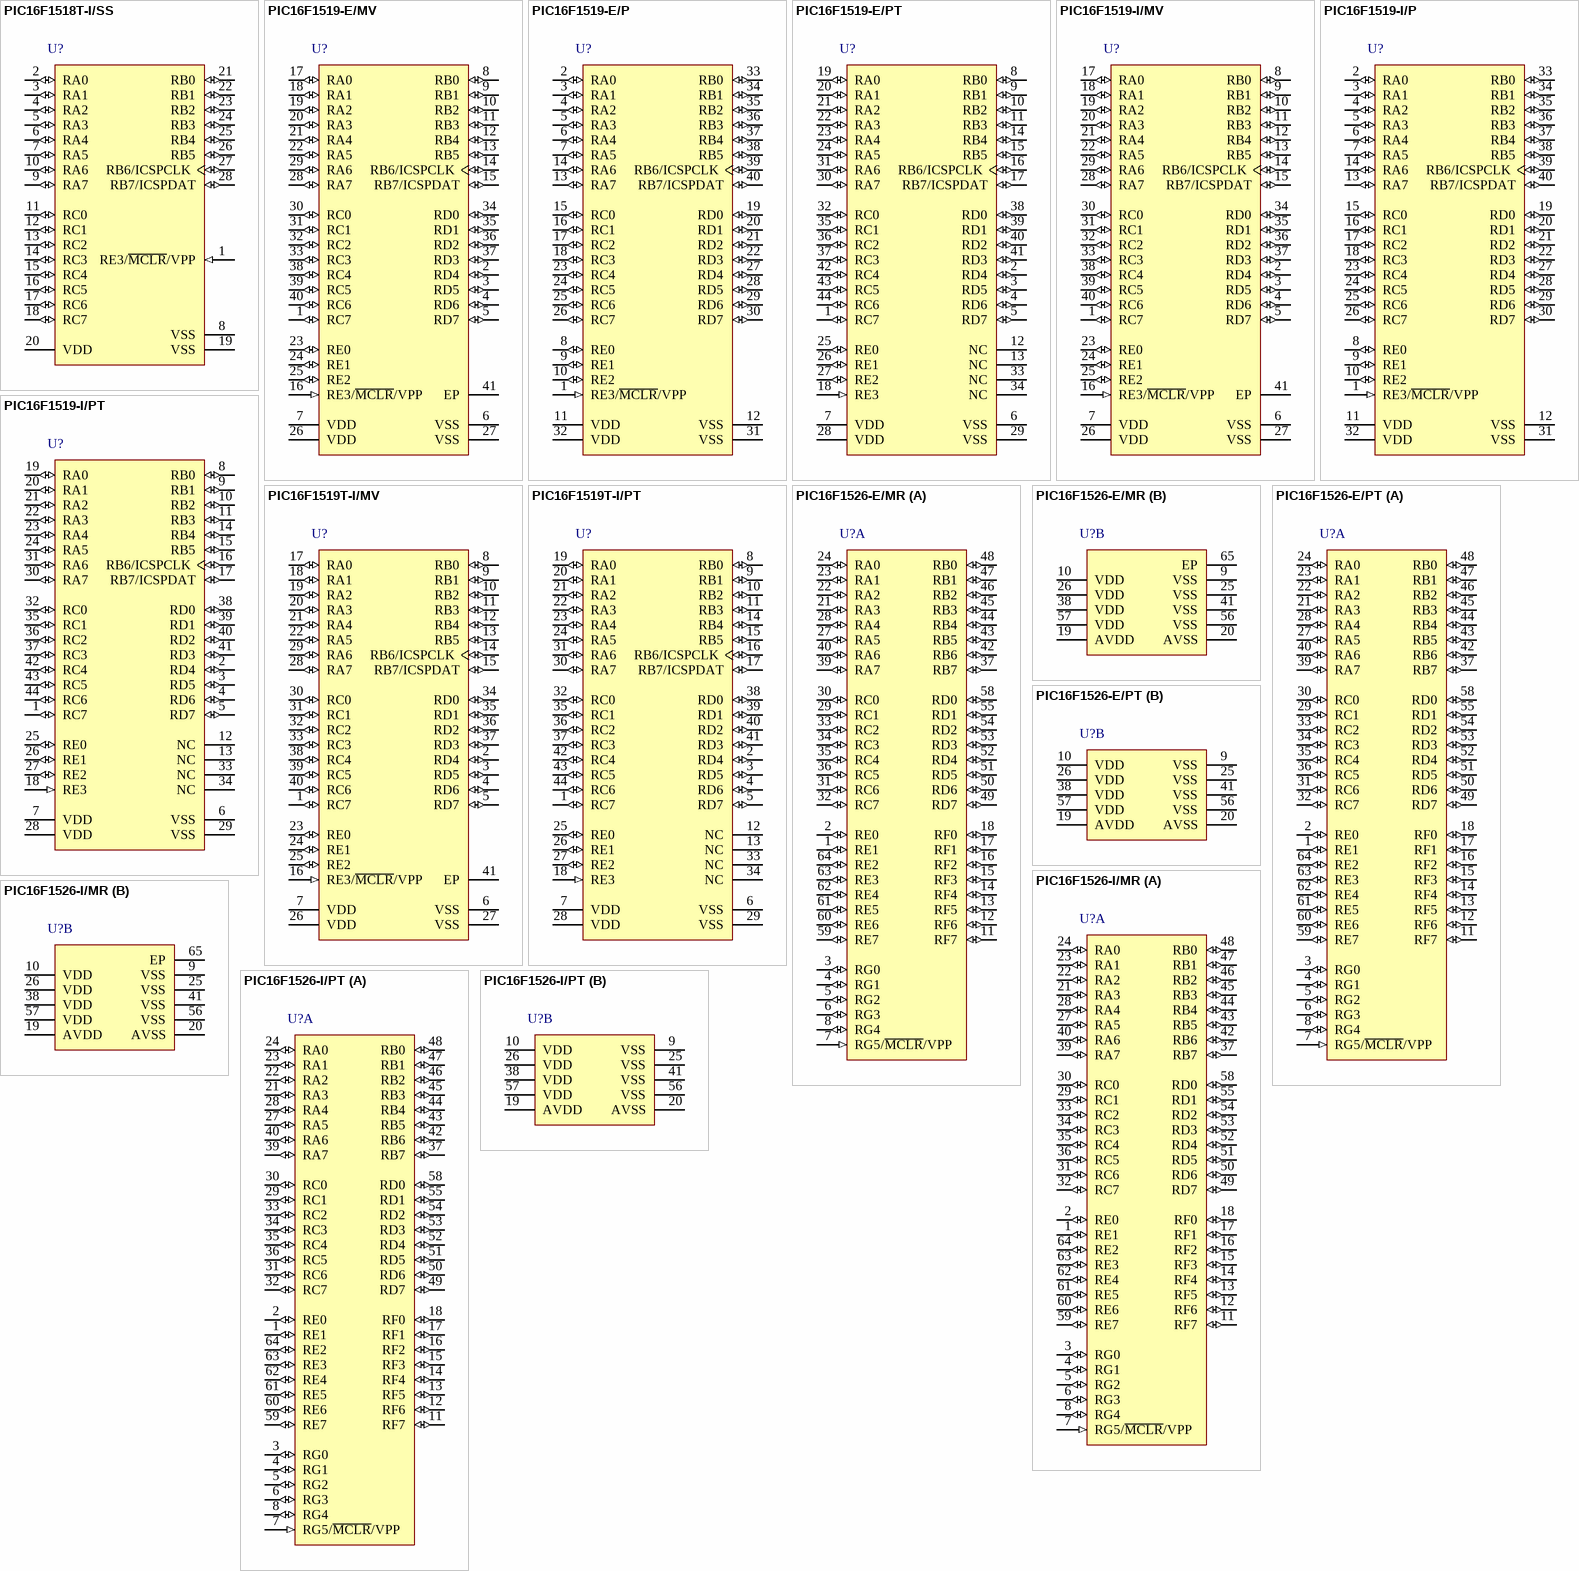
[diagram p53: symbols PIC16F1518T-I/SS to PIC16F1526-I/PT]

## PIC16F1518T-I/SS
designator U?
Flash Microcontroller with XLP Technology, 20 MHz, 24 I/O, -40 to 85 degC, 28-pin SSOP (SS28), Tape and Reel; Manufacturer: Microchip; PartNumber: PIC16F1518T-I/SS; # of A/D Channels: 17; Digital Communication: 1 -A/E/USART, 1 -MSSP(SPI/I2C); I/O Pins: 24; Internal Oscillator: 16 MHz, 31 kHz; Max. CPU Speed MHz: 20; Operation Voltage Range: 2.3V - 5.5V; Packing: T/R; Program Memory KBytes: 28; Program Memory KWords: 16; RAM: 1024; Timers: 2 - 8-bit, 1 - 16-bit; DatasheetVersion: Rev. C; PackageVersion: C04-073B, 12/2012; PackageReference: SSOP-SS28; PackageDescription: 28-Lead Plastic Shrink Small Outline, 10.2 x 5.3 mm Body, 0.65 mm Pitch; Supplier 1: Digi-Key; Supplier Part Number 1: PIC16F1518T-I/SS-ND; Supplier 2: Mouser; Supplier Part Number 2: 579-PIC16F1518T-I/SS; Memory Type: Flash; RoHS: TRUE; Mounting Technology: Surface Mount; ComponentLink1Description: Datasheet; ComponentLink1URL: http://ww1.microchip.com/downloads/en/DeviceDoc/41452C.pdf; ComponentLink2Description: Package Specification; ComponentLink2URL: http://www.microchip.com/stellent/groups/techpub_sg/documents/packagingspec/en012702.pdf; ComponentLink3Description: URL Link1; ComponentLink3URL: Product URL:http://www.microchip.com/datasheet/PIC16F1518
footprint MCHP-SSOP-SS28_N (SOP, 28-Leads, Body 10.2x5.3mm, Pitch 0.65mm, IPC Medium Density)
footprint MCHP-SSOP-SS28_L (SOP, 28-Leads, Body 10.2x5.3mm, Pitch 0.65mm, IPC High Density)
footprint MCHP-SSOP-SS28_M (SOP, 28-Leads, Body 10.2x5.3mm, Pitch 0.65mm, IPC Low Density)
pins: 1 RE3/~{MCLR}/VPP (in), 2 RA0 (io), 3 RA1 (io), 4 RA2 (io), 5 RA3 (io), 6 RA4 (io), 7 RA5 (io), 8 VSS (power) "Ground reference.", 9 RA7 (io), 10 RA6 (io), 11 RC0 (io), 12 RC1 (io), 13 RC2 (io), 14 RC3 (io), 15 RC4 (io), 16 RC5 (io), 17 RC6 (io), 18 RC7 (io), 19 VSS (power) "Ground reference.", 20 VDD (power) "Positive supply.", 21 RB0 (io), 22 RB1 (io), 23 RB2 (io), 24 RB3 (io), 25 RB4 (io), 26 RB5 (io), 27 RB6/ICSPCLK (io), 28 RB7/ICSPDAT (io)

## PIC16F1519-E/MV
designator U?
Flash Microcontroller with XLP Technology, 20 MHz, 35 I/O, -40 to 125 degC, 40-pin UQFN (MV40), Tube; Manufacturer: Microchip; PartNumber: PIC16F1519-E/MV; # of A/D Channels: 28; Digital Communication: 1 -A/E/USART, 1 -MSSP(SPI/I2C); I/O Pins: 35; Internal Oscillator: 16 MHz, 31 kHz; Max. CPU Speed MHz: 20; Operation Voltage Range: 2.3V - 5.5V; Program Memory KWords: 16; RAM: 1024; Timers: 2 - 8-bit, 1 - 16-bit, 0 - 32-bit; DatasheetVersion: Rev. C; PackageVersion: C04-156A, 04/2013; PackageReference: UQFN-MV40; PackageDescription: 40-Lead Plastic Ultra Thin Quad Flat, No Lead Package, Body 5 x 5 mm, Pitch 0.4 mm; Supplier 1: Digi-Key; Supplier Part Number 1: PIC16F1519-E/MV-ND; Supplier 2: Mouser; Supplier Part Number 2: 579-PIC16F1519-E/MV; Memory Type: Flash; Packing: TUBE; Program Memory KBytes: 28; RoHS: TRUE; Mounting Technology: Surface Mount; ComponentLink1Description: Datasheet; ComponentLink1URL: http://ww1.microchip.com/downloads/en/DeviceDoc/41452C.pdf; ComponentLink2Description: Package Specification; ComponentLink2URL: http://www.microchip.com/stellent/groups/techpub_sg/documents/packagingspec/en012702.pdf; ComponentLink3Description: URL Link1; ComponentLink3URL: Product URL:http://www.microchip.com/datasheet/PIC16F1519
footprint MCHP-UQFN-MV40_N (QFN, 40-Leads, Body 5x5mm, Pitch 0.4mm, Thermal Pad 3.7x3.7mm, IPC Medium Density)
footprint MCHP-UQFN-MV40_L (QFN, 40-Leads, Body 5x5mm, Pitch 0.4mm, Thermal Pad 3.7x3.7mm, IPC High Density)
footprint MCHP-UQFN-MV40_M (QFN, 40-Leads, Body 5x5mm, Pitch 0.4mm, Thermal Pad 3.7x3.7mm, IPC Low Density)
pins: 1 RC7 (io), 2 RD4 (io), 3 RD5 (io), 4 RD6 (io), 5 RD7 (io), 6 VSS (power) "Ground reference.", 7 VDD (power) "Positive supply.", 8 RB0 (io), 9 RB1 (io), 10 RB2 (io), 11 RB3 (io), 12 RB4 (io), 13 RB5 (io), 14 RB6/ICSPCLK (io), 15 RB7/ICSPDAT (io), 16 RE3/~{MCLR}/VPP (in), 17 RA0 (io), 18 RA1 (io), 19 RA2 (io), 20 RA3 (io), 21 RA4 (io), 22 RA5 (io), 23 RE0 (io), 24 RE1 (io), 25 RE2 (io), 26 VDD (power) "Positive supply.", 27 VSS (power) "Ground reference.", 28 RA7 (io), 29 RA6 (io), 30 RC0 (io), 31 RC1 (io), 32 RC2 (io), 33 RC3 (io), 34 RD0 (io), 35 RD1 (io), 36 RD2 (io), 37 RD3 (io), 38 RC4 (io), 39 RC5 (io), 40 RC6 (io), 41 EP

## PIC16F1519-E/P
designator U?
Flash Microcontroller with XLP Technology, 20 MHz, 35 I/O, -40 to 125 degC, 40-pin PDIP (P40), Tube; Manufacturer: Microchip; PartNumber: PIC16F1519-E/P; # of A/D Channels: 28; Digital Communication: 1 -A/E/USART, 1 -MSSP(SPI/I2C); I/O Pins: 35; Internal Oscillator: 16 MHz, 31 kHz; Max. CPU Speed MHz: 20; Operation Voltage Range: 2.3V - 5.5V; Program Memory KWords: 16; RAM: 1024; Timers: 2 - 8-bit, 1 - 16-bit; DatasheetVersion: Rev. C; PackageVersion: C04-016B, 04/2013; PackageReference: PDIP-P40; PackageDescription: 40-Lead Plastic Dual In-Line Package, Body 51.75 x 13.53 mm, Pitch 2.54 mm; Supplier 1: Digi-Key; Supplier Part Number 1: PIC16F1519-E/P-ND; Supplier 2: Mouser; Supplier Part Number 2: 579-PIC16F1519-E/P; Memory Type: Flash; Packing: TUBE; Program Memory KBytes: 28; RoHS: TRUE; Mounting Technology: Through Hole; ComponentLink1Description: Datasheet; ComponentLink1URL: http://ww1.microchip.com/downloads/en/DeviceDoc/41452C.pdf; ComponentLink2Description: Package Specification; ComponentLink2URL: http://www.microchip.com/stellent/groups/techpub_sg/documents/packagingspec/en012702.pdf; ComponentLink3Description: URL Link1; ComponentLink3URL: Product URL:http://www.microchip.com/datasheet/PIC16F1519
footprint MCHP-PDIP-P40 (PDIP, 40-Leads, Body 51.75x13.53mm, Pitch 2.54mm)
pins: 1 RE3/~{MCLR}/VPP (in), 2 RA0 (io), 3 RA1 (io), 4 RA2 (io), 5 RA3 (io), 6 RA4 (io), 7 RA5 (io), 8 RE0 (io), 9 RE1 (io), 10 RE2 (io), 11 VDD (power) "Positive supply.", 12 VSS (power) "Ground reference.", 13 RA7 (io), 14 RA6 (io), 15 RC0 (io), 16 RC1 (io), 17 RC2 (io), 18 RC3 (io), 19 RD0 (io), 20 RD1 (io), 21 RD2 (io), 22 RD3 (io), 23 RC4 (io), 24 RC5 (io), 25 RC6 (io), 26 RC7 (io), 27 RD4 (io), 28 RD5 (io), 29 RD6 (io), 30 RD7 (io), 31 VSS (power) "Ground reference.", 32 VDD (power) "Positive supply.", 33 RB0 (io), 34 RB1 (io), 35 RB2 (io), 36 RB3 (io), 37 RB4 (io), 38 RB5 (io), 39 RB6/ICSPCLK (io), 40 RB7/ICSPDAT (io)

## PIC16F1519-E/PT
designator U?
Flash Microcontroller with XLP Technology, 20 MHz, 35 I/O, -40 to 125 degC, 44-pin TQFP (PT44), Tray; Manufacturer: Microchip; PartNumber: PIC16F1519-E/PT; # of A/D Channels: 28; Digital Communication: 1 -A/E/USART, 1 -MSSP(SPI/I2C); I/O Pins: 35; Internal Oscillator: 16 MHz, 31 kHz; Max. CPU Speed MHz: 20; Operation Voltage Range: 2.3V - 5.5V; Program Memory KWords: 16; RAM: 1024; Timers: 2 - 8-bit, 1 - 16-bit; DatasheetVersion: Rev. C; PackageVersion: C04-076B, 12/2012; PackageReference: TQFP-PT44; PackageDescription: 44-Lead Plastic Thin Quad Flatpack, 10 x 10 mm Body, 0.8 mm Pitch; Supplier 1: Digi-Key; Supplier Part Number 1: PIC16F1519-E/PT-ND; Supplier 2: Mouser; Supplier Part Number 2: 579-PIC16F1519-E/PT; Memory Type: Flash; Packing: TRAY; Program Memory KBytes: 28; RoHS: TRUE; Mounting Technology: Surface Mount; ComponentLink1Description: Datasheet; ComponentLink1URL: http://ww1.microchip.com/downloads/en/DeviceDoc/41452C.pdf; ComponentLink2Description: Package Specification; ComponentLink2URL: http://www.microchip.com/stellent/groups/techpub_sg/documents/packagingspec/en012702.pdf; ComponentLink3Description: URL Link1; ComponentLink3URL: Product URL:http://www.microchip.com/datasheet/PIC16F1519
footprint MCHP-TQFP-PT44_N (QFN, 44-Leads, Body 10x10mm, Pitch 0.8mm, IPC Medium Density)
footprint MCHP-TQFP-PT44_L (QFN, 44-Leads, Body 10x10mm, Pitch 0.8mm, IPC High Density)
footprint MCHP-TQFP-PT44_M (QFN, 44-Leads, Body 10x10mm, Pitch 0.8mm, IPC Low Density)
pins: 1 RC7 (io), 2 RD4 (io), 3 RD5 (io), 4 RD6 (io), 5 RD7 (io), 6 VSS (power) "Ground reference.", 7 VDD (power) "Positive supply.", 8 RB0 (io), 9 RB1 (io), 10 RB2 (io), 11 RB3 (io), 12 NC, 13 NC, 14 RB4 (io), 15 RB5 (io), 16 RB6/ICSPCLK (io), 17 RB7/ICSPDAT (io), 18 RE3 (in), 19 RA0 (io), 20 RA1 (io), 21 RA2 (io), 22 RA3 (io), 23 RA4 (io), 24 RA5 (io), 25 RE0 (io), 26 RE1 (io), 27 RE2 (io), 28 VDD (power) "Positive supply.", 29 VSS (power) "Ground reference.", 30 RA7 (io), 31 RA6 (io), 32 RC0 (io), 33 NC, 34 NC, 35 RC1 (io), 36 RC2 (io), 37 RC3 (io), 38 RD0 (io), 39 RD1 (io), 40 RD2 (io), 41 RD3 (io), 42 RC4 (io), 43 RC5 (io), 44 RC6 (io)